# Altium footprint library FourRotorMy.PcbLib: 3 footprints
Each footprint in its own frame and in the unit in brackets; x right, y up, seen from the top. Pads: shape width x height; smd on the part's side, far side on the other; paste and mask are expansions set on the pad; w line width, h text height; cw(c..) or ccw(c..) is an arc to the next point about the centre after c.
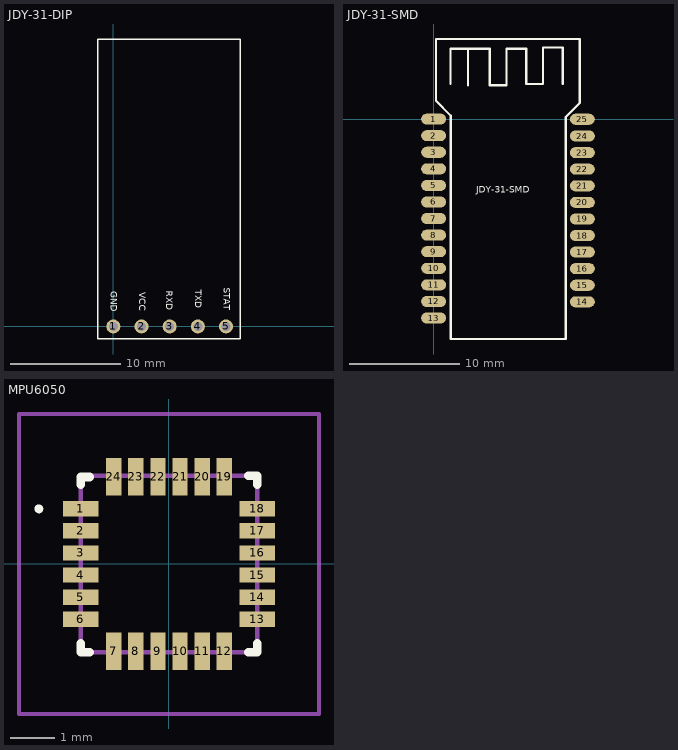
[diagram p0: the footprints below, top view; thin cyan lines are the x and y axes]

## JDY-31-DIP [mil]
pads (5):
  round 50 hole 32: 1(0,0) 2(100,0) 3(200,0) 4(300,0) 5(400,0)
Top Overlay:
  lines w5: 438.22,-44.65 -56,-44.65 -56,-31.87 -56,-10.61 -56,733.35 -56,1020.13 438.22,1020.13 451,1020.13 451,1012.35 451,83.35 451,-44.65 ; 438.22,-44.65 451,-44.65 ; 438.22,-44.65 451,-44.65
  text "STAT" at 391,137 h23.62
  text "TXD" at 291,130 h23.62
  text "RXD" at 188,126 h23.62
  text "VCC" at 92,122 h23.62
  text "GND" at -10,124 h23.62

## JDY-31-SMD [mm]
pads (25):
  oval 2.254x1 smd: 1(0,0) 2(0,-1.5) 3(0,-3) 4(0,-4.5) 5(0,-6) 6(0,-7.5) 7(0,-9) 8(0,-10.5) 9(0,-12) 10(0,-13.5) 11(0,-15) 12(0,-16.5) 13(0,-18) 14(13.462,-16.534) 15(13.462,-15.034) 16(13.462,-13.534) 17(13.462,-12.034) 18(13.462,-10.534) 19(13.462,-9.034) 20(13.462,-7.534) 21(13.462,-6.034) 22(13.462,-4.534) 23(13.462,-3.034) 24(13.462,-1.534) 25(13.462,-0.011)
Top Overlay:
  lines w0.2: 1.518,3.189 1.518,6.364 3.296,6.364 5.074,6.364 5.074,3.062 6.598,3.062 6.598,6.364 8.376,6.364 8.376,3.189 9.9,3.189 9.9,6.491 11.678,6.491 11.678,3.189 ; 1.543,-18.48 1.543,0.316 0.227,1.632 0.227,7.25 13.227,7.25 13.227,1.459 11.957,0.189 11.957,-18.48 ; 3.099,3.062 3.099,6.364
  lines w0.203: 1.543,-18.48 1.543,-19.899 11.957,-19.899 11.957,-18.48
  text "JDY-31-SMD" at 3.835,-6.666 h0.6

## MPU6050 [mm]
pads (24):
  rect 0.8x0.35 smd: 1(-2,1.25) 2(-2,0.75) 3(-2,0.25) 4(-2,-0.25) 5(-2,-0.75) 6(-2,-1.25) 13(2,-1.25) 14(2,-0.75) 15(2,-0.25) 16(2,0.25) 17(2,0.75) 18(2,1.25)
  rect 0.35x0.85 smd: 7(-1.25,-1.975) 8(-0.75,-1.975) 9(-0.25,-1.975) 10(0.25,-1.975) 11(0.75,-1.975) 12(1.25,-1.975) 19(1.25,1.975) 20(0.75,1.975) 21(0.25,1.975) 22(-0.25,1.975) 23(-0.75,1.975) 24(-1.25,1.975)
Top Overlay:
  lines w0.1: -3,1.25 cw(c-2.95,1.25) -2.9,1.25 cw(c-2.95,1.25) -3,1.25
  lines w0.2: -2,-1.8 -2,-2 -1.8,-2 ; -2,1.8 -2,1.975 -1.8,1.975 ; 1.8,-2 2,-2 2,-1.8 ; 1.8,2 2,2 2,1.8
Mechanical 15:
  lines w0.1: -2,-2 -2,2 2,2 2,-2 -2,-2
Mechanical 20:
  lines w0.1: -3.4,-3.4 -3.4,3.4 3.4,3.4 3.4,-3.4 -3.4,-3.4
3D body: height 0.25, standoff 0, extent -2,-1.977 2,1.975